# EAGLE library part 50224-015 (library con-aces-50224-series)
ACES CONNECTORS 50224 SERIES Aces Connectors 50224 <https://www.acesconn.com/tw/series/50224-xxxxx-xxx/3165>
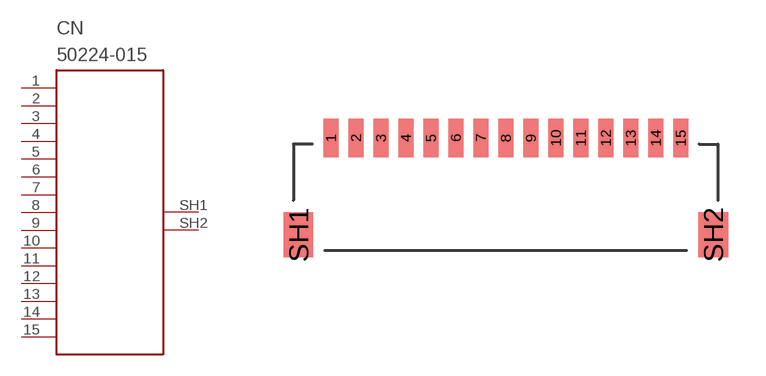
[diagram p11: symbol with the pads of 50224-015; footprint 50224-015]

Designator prefix CN

## 50224-015  [50224-015]
1  1
2  2
3  3
4  4
5  5
6  6
7  7
8  8
9  9
10  10
11  11
12  12
13  13
14  14
15  15
SH1  SH1
SH2  SH2

## Footprint 50224-015 (pad centres in mm)
smd 0.6 x 1.55: 1 -7,0; 2 -6,0; 3 -5,0; 4 -4,0; 5 -3,0; 6 -2,0; 7 -1,0; 8 0,0; 9 1,0; 10 2,0; 11 3,0; 12 4,0; 13 5,0; 14 6,0; 15 7,0
smd 1.2 x 1.8: SH1 -8.3,-3.875; SH2 8.3,-3.875